# Altium footprint library 691 244 600 0xx.PcbLib: 2 footprints
Each footprint in its own frame and in the unit in brackets; x right, y up, seen from the top. Pads: shape width x height; smd on the part's side, far side on the other; paste and mask are expansions set on the pad; w line width, h text height; cw(c..) or ccw(c..) is an arc to the next point about the centre after c.
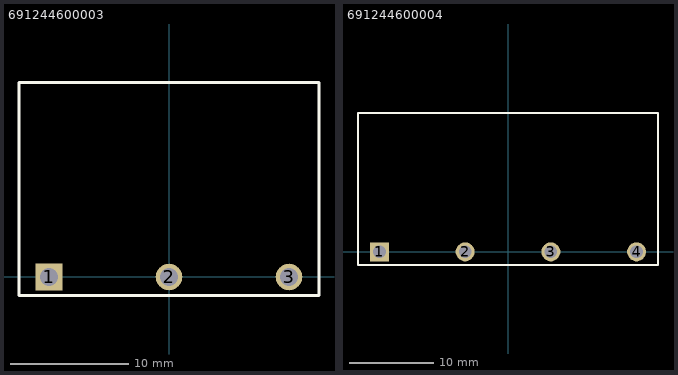
[diagram p0: the footprints below, top view; thin cyan lines are the x and y axes]

## 691244600003 [mm] "Serie 2446 - 10.16 mm _ 3 pins"
height 11.2
pads (3):
  rect 2.25x2.25 hole 1.5: 1(-10.16,0)
  round 2.25 hole 1.5: 2(0,0) 3(10.16,0)
Top Overlay:
  lines w0.254: -12.7,-1.55 -12.7,16.45 12.7,16.45 12.7,-1.55 -12.7,-1.55
3D body: height 11.3, standoff -3.9, extent -12.7,-1.6 12.7,16.4

## 691244600004 [mm] "Serie 2446 - 10.16 mm _ 4 pins"
height 11.2
pads (4):
  rect 2.25x2.25 hole 1.5: 1(-15.24,0)
  round 2.25 hole 1.5: 2(-5.08,0) 3(5.08,0) 4(15.24,0)
Top Overlay:
  lines w0.254: -17.78,-1.55 -17.78,16.45 17.78,16.45 17.78,-1.55 -17.78,-1.55
3D body: height 11.3, standoff -3.9, extent -17.8,-1.6 17.76,16.4